# Altium footprint library STM32_F4XX_Pro.PcbLib: 25 footprints (part 1 of 2)
Each footprint in its own frame and in the unit in brackets; x right, y up, seen from the top. Pads: shape width x height; smd on the part's side, far side on the other; paste and mask are expansions set on the pad; w line width, h text height; cw(c..) or ccw(c..) is an arc to the next point about the centre after c.
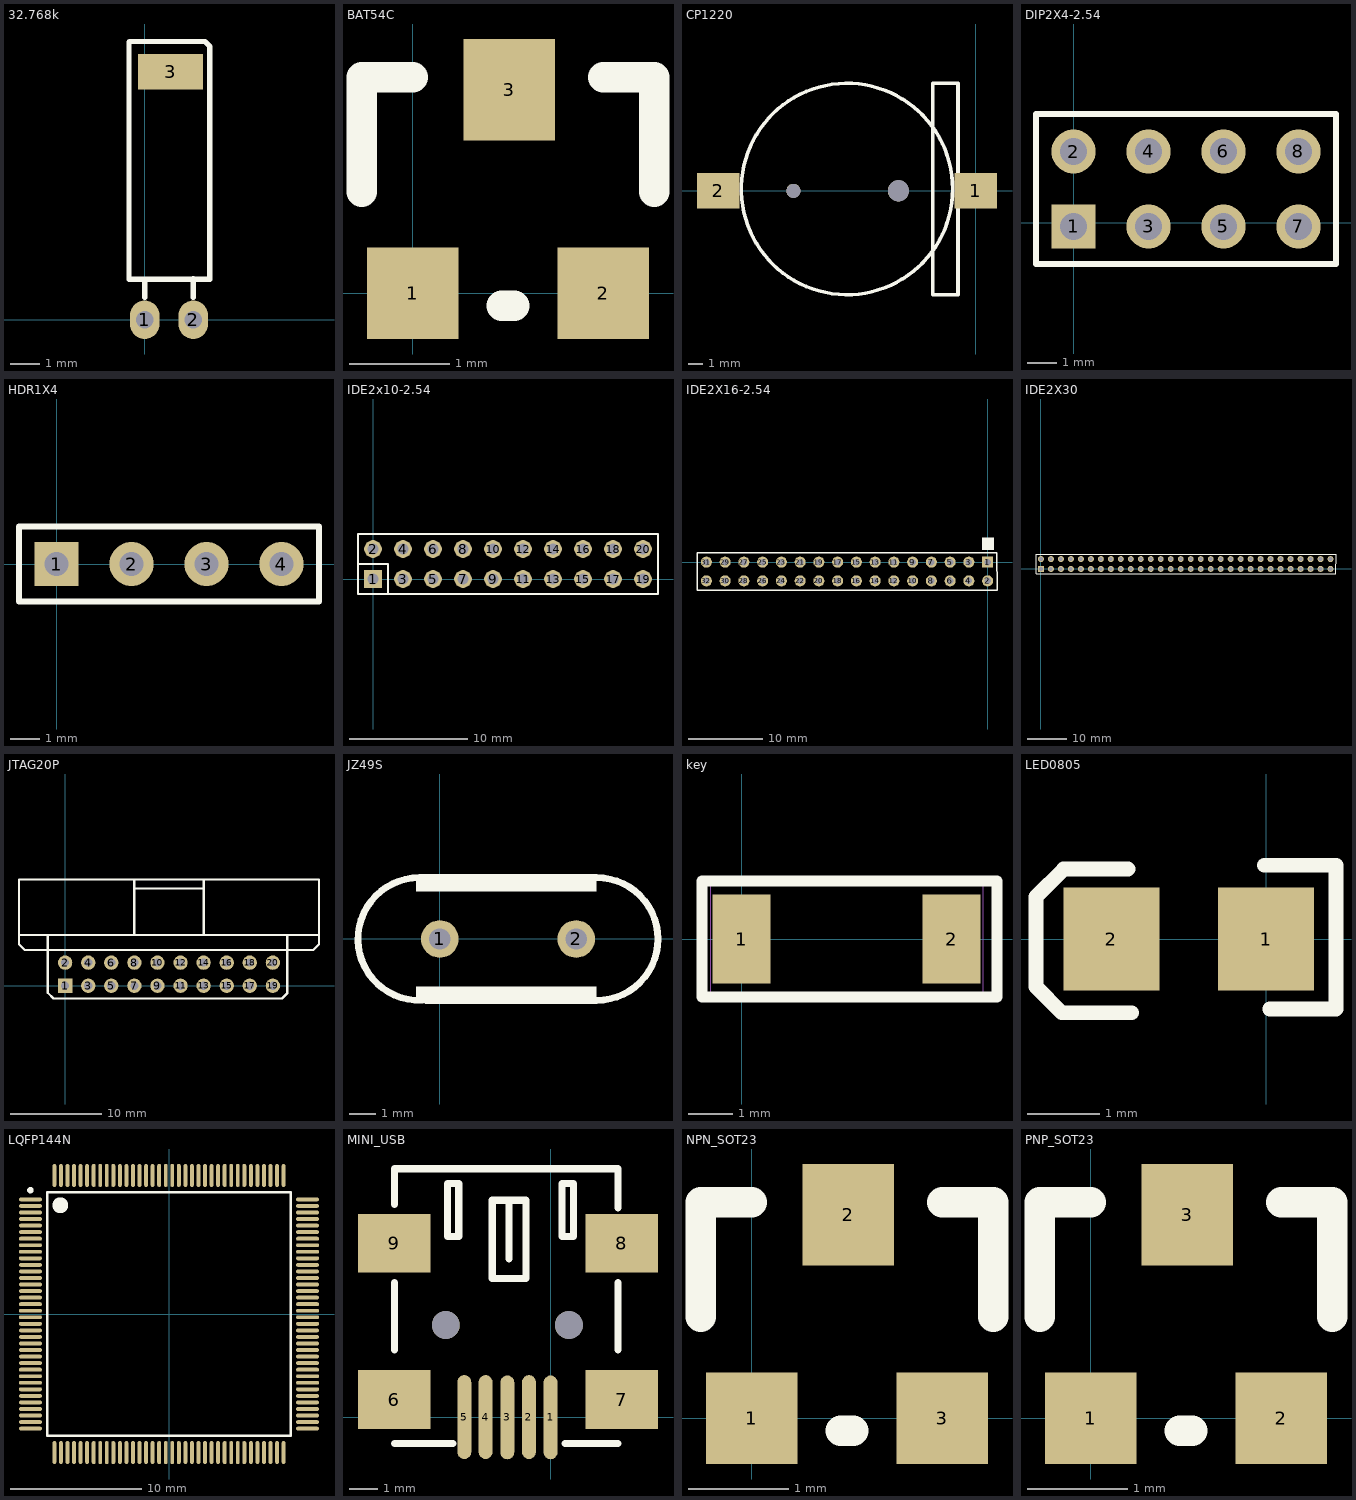
[diagram p0: the footprints below, top view; thin cyan lines are the x and y axes]

## 32.768k [mm]
height 2.54
pads (3):
  oval 1x1.3 hole 0.6: 1(0,0) 2(1.64,0)
  rect 2.2x1.2 smd: 3(0.875,8.382)
Top Overlay:
  lines w0.178: 0,0.762 0,1.37 ; 1.64,0.762 1.64,1.386 ; -0.53,1.37 -0.53,8.77 -0.53,9.376 -0.508,9.398 2.032,9.398 2.2,9.23 2.2,8.77 2.2,1.37 -0.53,1.37

## BAT54C [mil]
height 100
pads (3):
  rect 36x36 smd: 1(0,0) 2(75,0)
  rect 36x40 smd: 3(38,80)
Top Overlay:
  lines w12: -20,40 -20,85 0,85 ; 35,-5 40,-5 ; 75,85 95,85 95,40

## CP1220 [mm]
height 2.54
pads (4):
  rect 3x2.5 smd: 1(0,0) 2(-18.288,0)
  round 1 hole 1: ""(-12.95,0)
  round 1.5 hole 1.5: ""(-5.5,0)
Top Overlay:
  circle w0.254: c-9.144,0.128 r7.5
  lines w0.254: -3.048,-7.366 -1.27,-7.366 -1.27,7.62 -3.048,7.62 -3.048,-7.366

## DIP2X4-2.54 [mm]
pads (8):
  rect 1.5x1.5 hole 0.9: 1(0,-0.127)
  round 1.5 hole 0.9: 2(0,2.413) 3(2.54,-0.127) 4(2.54,2.413) 5(5.08,-0.127) 6(5.08,2.413) 7(7.62,-0.127) 8(7.62,2.413)
Top Overlay:
  lines w0.2: -1.27,-1.397 8.89,-1.397 8.89,3.683 -1.27,3.683 -1.27,-1.397

## HDR1X4 [mm] "Connector; Header; 4 Position"
pads (4):
  rect 1.5x1.5 hole 0.8: 1(0,0)
  round 1.5 hole 0.8: 2(2.54,0) 3(5.08,0) 4(7.62,0)
Top Overlay:
  lines w0.2: -1.27,-1.27 -1.27,1.27 8.89,1.27 8.89,-1.27 -1.27,-1.27

## IDE2x10-2.54 [mm]
pads (20):
  rect 1.5x1.5 hole 0.9: 1(0,0)
  round 1.5 hole 0.9: 2(0,2.54) 3(2.54,0) 4(2.54,2.54) 5(5.08,0) 6(5.08,2.54) 7(7.62,0) 8(7.62,2.54) 9(10.16,0) 10(10.16,2.54) 11(12.7,0) 12(12.7,2.54) 13(15.24,0) 14(15.24,2.54) 15(17.78,0) 16(17.78,2.54) 17(20.32,0) 18(20.32,2.54) 19(22.86,0) 20(22.86,2.54)
Top Overlay:
  lines w0.2: -1.27,-1.27 -1.27,3.81 0.635,3.81 24.13,3.81 24.13,-1.27 0.635,-1.27 -1.27,-1.27
  lines w0.203: -1.27,1.27 1.27,1.27 1.27,-1.27

## IDE2X16-2.54 [mm]
pads (32):
  rect 1.5x1.5 hole 0.9: 1(0,0)
  round 1.5 hole 0.9: 2(0,-2.54) 3(-2.54,0) 4(-2.54,-2.54) 5(-5.08,0) 6(-5.08,-2.54) 7(-7.62,0) 8(-7.62,-2.54) 9(-10.16,0) 10(-10.16,-2.54) 11(-12.7,0) 12(-12.7,-2.54) 13(-15.24,0) 14(-15.24,-2.54) 15(-17.78,0) 16(-17.78,-2.54) 17(-20.32,0) 18(-20.32,-2.54) 19(-22.86,0) 20(-22.86,-2.54) 21(-25.4,0) 22(-25.4,-2.54) 23(-27.94,0) 24(-27.94,-2.54) 25(-30.48,0) 26(-30.48,-2.54) 27(-33.02,0) 28(-33.02,-2.54) 29(-35.56,0) 30(-35.56,-2.54) 31(-38.1,0) 32(-38.1,-2.54)
Top Overlay:
  region: 0.889,3.302 -0.762,3.302 -0.762,1.651 0.889,1.651
  lines w0.2: -39.37,-3.81 -39.37,1.27 1.27,1.27 1.27,-3.81 -39.37,-3.81

## IDE2X30 [mm]
pads (60):
  rect 1.5x1.5 hole 0.9: 1(0,0)
  round 1.5 hole 0.9: 2(0,2.54) 3(2.54,0) 4(2.54,2.54) 5(5.08,0) 6(5.08,2.54) 7(7.62,0) 8(7.62,2.54) 9(10.16,0) 10(10.16,2.54) 11(12.7,0) 12(12.7,2.54) 13(15.24,0) 14(15.24,2.54) 15(17.78,0) 16(17.78,2.54) 17(20.32,0) 18(20.32,2.54) 19(22.86,0) 20(22.86,2.54) 21(25.4,0) 22(25.4,2.54) 23(27.94,0) 24(27.94,2.54) 25(30.48,0) 26(30.48,2.54) 27(33.02,0) 28(33.02,2.54) 29(35.56,0) 30(35.56,2.54) 31(38.1,0) 32(38.1,2.54) 33(40.64,0) 34(40.64,2.54) 35(43.18,0) 36(43.18,2.54) 37(45.72,0) 38(45.72,2.54) 39(48.26,0) 40(48.26,2.54) 41(50.8,0) 42(50.8,2.54) 43(53.34,0) 44(53.34,2.54) 45(55.88,0) 46(55.88,2.54) 47(58.42,0) 48(58.42,2.54) 49(60.96,0) 50(60.96,2.54) 51(63.5,0) 52(63.5,2.54) 53(66.04,0) 54(66.04,2.54) 55(68.58,0) 56(68.58,2.54) 57(71.12,0) 58(71.12,2.54) 59(73.66,0) 60(73.66,2.54)
Top Overlay:
  lines w0.2: -1.27,-1.27 -1.27,3.81 75.06,3.81 75.06,-1.27 -1.27,-1.27

## JTAG20P [mil]
pads (20):
  rect 62x62 hole 35.43: 1(0,0)
  round 62 hole 35.43: 2(0,100) 3(100,0) 4(100,100) 5(200,0) 6(200,100) 7(300,0) 8(300,100) 9(400,0) 10(400,100) 11(500,0) 12(500,100) 13(600,0) 14(600,100) 15(700,0) 16(700,100) 17(800,0) 18(800,100) 19(900,0) 20(900,100)
Top Overlay:
  lines w8: -76.12,220 -75,218.88
  lines w10: -75,218.88 -75,-30 -50,-55 940,-55 961.88,-33.12 961.88,220 ; 300,223.4 300,440 ; 300,460 300,421.07 600,421.07 600,460 ; 600,221.58 600,440 ; -200,220 1100,220 ; -200,220 -200,460 1100,460 1100,220 ; -200,220 -200,180 -175,155 -75,155 961.88,155 1075,155 1100,180 1100,220

## JZ49S [mm]
pads (2):
  round 1.4 hole 0.8: 1(0,0) 2(5.08,0)
Top Overlay:
  region: 5.842,-1.778 -0.889,-1.778 -0.889,-2.286 5.842,-2.286
  region: 5.842,2.286 -0.889,2.286 -0.889,1.778 5.842,1.778
  lines w0.254: -0.508,-2.286 5.842,-2.286 ccw(c5.842,0) 5.842,2.286 -0.762,2.286 ccw(c-0.762,0) -0.404,-2.258

## key [mm]
pads (2):
  rect 1.3x2 smd paste+0 mask+0.2: 1(0,0) 2(4.7,0)
Top Overlay:
  lines w0.254: -0.888,-1.3 5.716,-1.3 5.716,1.3 -0.888,1.3 -0.888,-1.3
Mechanical 1:
  lines w0.025: -0.695,-1.3 5.405,-1.3 5.405,1.3 -0.695,1.3 -0.695,-1.3
Mechanical 2:
  lines w0.003: -0.695,-1.3 5.405,-1.3 5.405,1.3 -0.695,1.3 -0.695,-1.3

## LED0805 [mil]
height 100
pads (2):
  rect 52x56 smd: 1(0,0) 2(-84,0)
Top Overlay:
  lines w8: -75,38 -110,38 -125,23 -125,-26 -111,-40 -73,-40 ; -1,40 38,40 38,-38 2,-38

## LQFP144N [mm]
height 1.6
pads (144):
  oval 1.75x0.297 smd: 1(-10.575,8.75) 2(-10.575,8.25) 3(-10.575,7.75) 4(-10.575,7.25) 5(-10.575,6.75) 6(-10.575,6.25) 7(-10.575,5.75) 8(-10.575,5.25) 9(-10.575,4.75) 10(-10.575,4.25) 11(-10.575,3.75) 12(-10.575,3.25) 13(-10.575,2.75) 14(-10.575,2.25) 15(-10.575,1.75) 16(-10.575,1.25) 17(-10.575,0.75) 18(-10.575,0.25) 19(-10.575,-0.25) 20(-10.575,-0.75) 21(-10.575,-1.25) 22(-10.575,-1.75) 23(-10.575,-2.25) 24(-10.575,-2.75) 25(-10.575,-3.25) 26(-10.575,-3.75) 27(-10.575,-4.25) 28(-10.575,-4.75) 29(-10.575,-5.25) 30(-10.575,-5.75) 31(-10.575,-6.25) 32(-10.575,-6.75) 33(-10.575,-7.25) 34(-10.575,-7.75) 35(-10.575,-8.25) 36(-10.575,-8.75) 73(10.575,-8.75) 74(10.575,-8.25) 75(10.575,-7.75) 76(10.575,-7.25) 77(10.575,-6.75) 78(10.575,-6.25) 79(10.575,-5.75) 80(10.575,-5.25) 81(10.575,-4.75) 82(10.575,-4.25) 83(10.575,-3.75) 84(10.575,-3.25) 85(10.575,-2.75) 86(10.575,-2.25) 87(10.575,-1.75) 88(10.575,-1.25) 89(10.575,-0.75) 90(10.575,-0.25) 91(10.575,0.25) 92(10.575,0.75) 93(10.575,1.25) 94(10.575,1.75) 95(10.575,2.25) 96(10.575,2.75) 97(10.575,3.25) 98(10.575,3.75) 99(10.575,4.25) 100(10.575,4.75) 101(10.575,5.25) 102(10.575,5.75) 103(10.575,6.25) 104(10.575,6.75) 105(10.575,7.25) 106(10.575,7.75) 107(10.575,8.25) 108(10.575,8.75)
  oval 0.297x1.75 smd: 37(-8.75,-10.575) 38(-8.25,-10.575) 39(-7.75,-10.575) 40(-7.25,-10.575) 41(-6.75,-10.575) 42(-6.25,-10.575) 43(-5.75,-10.575) 44(-5.25,-10.575) 45(-4.75,-10.575) 46(-4.25,-10.575) 47(-3.75,-10.575) 48(-3.25,-10.575) 49(-2.75,-10.575) 50(-2.25,-10.575) 51(-1.75,-10.575) 52(-1.25,-10.575) 53(-0.75,-10.575) 54(-0.25,-10.575) 55(0.25,-10.575) 56(0.75,-10.575) 57(1.25,-10.575) 58(1.75,-10.575) 59(2.25,-10.575) 60(2.75,-10.575) 61(3.25,-10.575) 62(3.75,-10.575) 63(4.25,-10.575) 64(4.75,-10.575) 65(5.25,-10.575) 66(5.75,-10.575) 67(6.25,-10.575) 68(6.75,-10.575) 69(7.25,-10.575) 70(7.75,-10.575) 71(8.25,-10.575) 72(8.75,-10.575) 109(8.75,10.575) 110(8.25,10.575) 111(7.75,10.575) 112(7.25,10.575) 113(6.75,10.575) 114(6.25,10.575) 115(5.75,10.575) 116(5.25,10.575) 117(4.75,10.575) 118(4.25,10.575) 119(3.75,10.575) 120(3.25,10.575) 121(2.75,10.575) 122(2.25,10.575) 123(1.75,10.575) 124(1.25,10.575) 125(0.75,10.575) 126(0.25,10.575) 127(-0.25,10.575) 128(-0.75,10.575) 129(-1.25,10.575) 130(-1.75,10.575) 131(-2.25,10.575) 132(-2.75,10.575) 133(-3.25,10.575) 134(-3.75,10.575) 135(-4.25,10.575) 136(-4.75,10.575) 137(-5.25,10.575) 138(-5.75,10.575) 139(-6.25,10.575) 140(-6.75,10.575) 141(-7.25,10.575) 142(-7.75,10.575) 143(-8.25,10.575) 144(-8.75,10.575)
Top Overlay:
  circle w0.6: c-8.3,8.3 r0.3
  circle w0.25: c-10.575,9.45 r0.125
  lines w0.2: -9.3,-9.3 9.3,-9.3 9.3,9.3 -9.3,9.3 -9.3,-9.3

## MINI_USB [mm]
pads (11):
  oval 0.5x3 smd: 1(0,0) 2(-0.775,0.009) 3(-1.549,0) 4(-2.324,0.009) 5(-3.086,0.009)
  rect 2.6x2.1 smd: 6(-5.588,0.635) 7(2.54,0.635) 8(2.54,6.223) 9(-5.588,6.223)
  round 1 hole 1: ""(-3.749,3.299) ""(0.651,3.299)
Top Overlay:
  lines w0.254: -5.588,2.413 -5.588,4.826 ; -5.586,-0.938 -3.486,-0.938 ; -5.586,7.62 -5.586,8.89 2.414,8.89 2.414,7.493 ; -1.486,5.662 -1.486,7.762 ; 0.514,-0.938 2.414,-0.938 ; 2.413,2.413 2.413,4.826 ; -3.686,6.462 -3.686,8.362 -3.286,8.362 -3.286,6.462 -3.686,6.462 ; -2.086,4.962 -0.886,4.962 -0.886,7.762 -2.086,7.762 -2.086,4.962 ; 0.414,6.462 0.414,8.362 0.814,8.362 0.814,6.462 0.414,6.462

## NPN_SOT23 [mil]
pads (3):
  rect 36x36 smd: 1(0,0) 3(75,0)
  rect 36x40 smd: 2(38,80)
Top Overlay:
  lines w12: -20,40 -20,85 0,85 ; 35,-5 40,-5 ; 75,85 95,85 95,40

## PNP_SOT23 [mil]
pads (3):
  rect 36x36 smd: 1(0,0) 2(75,0)
  rect 36x40 smd: 3(38,80)
Top Overlay:
  lines w12: -20,40 -20,85 0,85 ; 35,-5 40,-5 ; 75,85 95,85 95,40